# EAGLE library part FT230XS (library LoganSmith-Digital_IC)
USB to Basic UART IC Datasheet <http://www.ftdichip.com/Support/Documents/DataSheets/ICs/DS_FT230X.pdf>
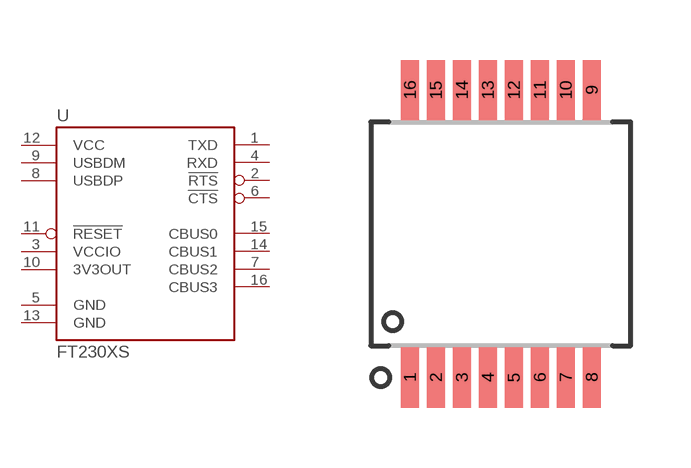
[diagram p0: symbol with the pads of SSOP-16; footprint SSOP-16]

Designator prefix U

## FT230XSS (DESC: IC USB serial basic UART 8mA 3.3V-5V; DIGIKEY_OC: 768-1135-1-ND; HEIGHT: 2mm; MFR: FTDI; MPN: FT230XS-R; TEMP: -40C to 85C; VALUE: FT230X)  [SSOP-16]
1  TXD  out
2  !RTS  out
3  VCCIO  pwr
4  RXD  in
5  GND  sup
6  !CTS  out
7  CBUS2
8  USBDP
9  USBDM
10  3V3OUT  pwr
11  !RESET  in
12  VCC  pwr
13  GND  sup
14  CBUS1
15  CBUS0
16  CBUS3

## Footprint SSOP-16 (pad centres in mm)
SSOP-16 package Footprint <http://cds.linear.com/docs/en/packaging/SSOP_16_05-08-1640.pdf>
smd 0.45 x 1.51: 1 -2.275,-3.595; 2 -1.625,-3.595; 3 -0.975,-3.595; 4 -0.325,-3.595; 5 0.325,-3.595; 6 0.975,-3.595; 7 1.625,-3.595; 8 2.275,-3.595; 9 2.275,3.595; 10 1.625,3.595; 11 0.975,3.595; 12 0.325,3.595; 13 -0.325,3.595; 14 -0.975,3.595; 15 -1.625,3.595; 16 -2.275,3.595